# Altium footprint library Crystals.PcbLib: 3 footprints
Each footprint in its own frame and in the unit in brackets; x right, y up, seen from the top. Pads: shape width x height; smd on the part's side, far side on the other; paste and mask are expansions set on the pad; w line width, h text height; cw(c..) or ccw(c..) is an arc to the next point about the centre after c.
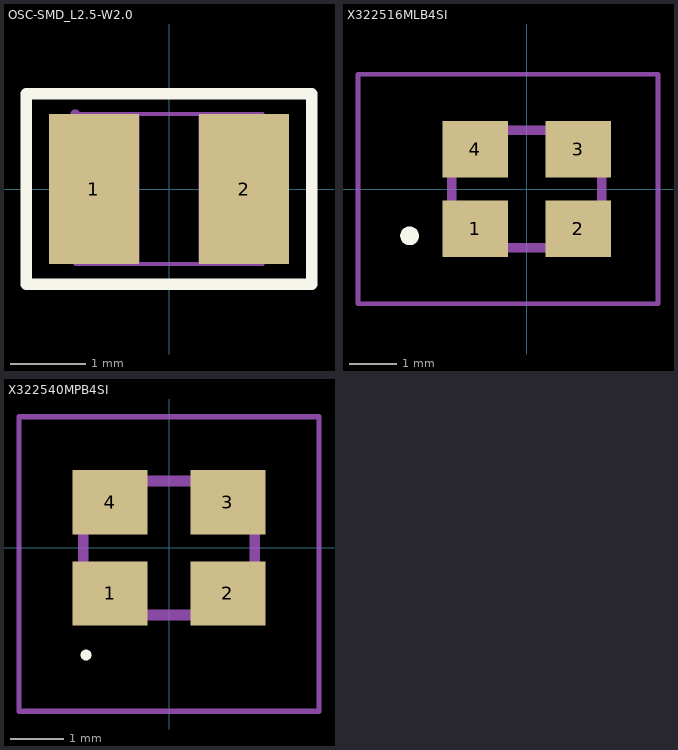
[diagram p0: the footprints below, top view; thin cyan lines are the x and y axes]

## OSC-SMD_L2.5-W2.0 [mm]
pads (2):
  rect 1.2x2 smd: 1(-1,0) 2(1,0)
Top Overlay:
  lines w0.15: -1.905,-1.27 -1.7,-1.27 1.7,-1.27 1.905,-1.27 1.905,-1.143 1.905,1.27 1.7,1.27 -1.7,1.27 -1.905,1.27 -1.905,1.143 -1.905,-1.27
Mechanical 15:
  region: -1.19,1 -1.191,1.024 -1.226,1.057 -1.274,1.057 -1.309,1.024 -1.31,1 -1.309,0.976 -1.274,0.943 -1.226,0.943 -1.191,0.976 -1.19,1
  region: -1.25,1 -0.4,1 -0.4,-1 -1.25,-1
  region: 1.25,-1 0.4,-1 0.4,1 1.25,1
  lines w0.051: -1.25,-1 1.25,-1 1.25,1 -1.25,1 -1.25,-1

## X322516MLB4SI [mm]
pads (4):
  rect 1.4x1.2 smd: 1(-1.1,-0.85) 2(1.1,-0.85) 3(1.1,0.85) 4(-1.1,0.85)
Top Overlay:
  lines w0.2: -2.6,-1 ccw(c-2.5,-1) -2.4,-1 ccw(c-2.5,-1) -2.6,-1
Mechanical 13:
  lines w0.2: -1.6,-1.25 1.6,-1.25 1.6,1.25 -1.6,1.25 -1.6,-1.25
Mechanical 15:
  lines w0.1: -3.6,-2.45 2.8,-2.45 2.8,2.45 -3.6,2.45 -3.6,-2.45
3D body "X322516MLB4SI.stp": height 0.7, standoff 0, extent -1.6,-1.25 1.6,1.25

## X322540MPB4SI [mm]
pads (4):
  rect 1.4x1.2 smd: 1(-1.1,-0.85) 2(1.1,-0.85) 3(1.1,0.85) 4(-1.1,0.85)
Top Overlay:
  lines w0.1: -1.6,-2 ccw(c-1.55,-2) -1.5,-2 ccw(c-1.55,-2) -1.6,-2
Mechanical 13:
  lines w0.2: -1.6,-1.25 1.6,-1.25 1.6,1.25 -1.6,1.25 -1.6,-1.25
Mechanical 15:
  lines w0.1: -2.8,-3.05 2.8,-3.05 2.8,2.45 -2.8,2.45 -2.8,-3.05
3D body "X322540MPB4SI.stp": height 0.9, standoff 0, extent -1.68,-1.33 1.68,1.33